# Altium footprint library FR107G.PcbLib: 1 footprints
Each footprint in its own frame and in the unit in brackets; x right, y up, seen from the top. Pads: shape width x height; smd on the part's side, far side on the other; paste and mask are expansions set on the pad; w line width, h text height; cw(c..) or ccw(c..) is an arc to the next point about the centre after c.
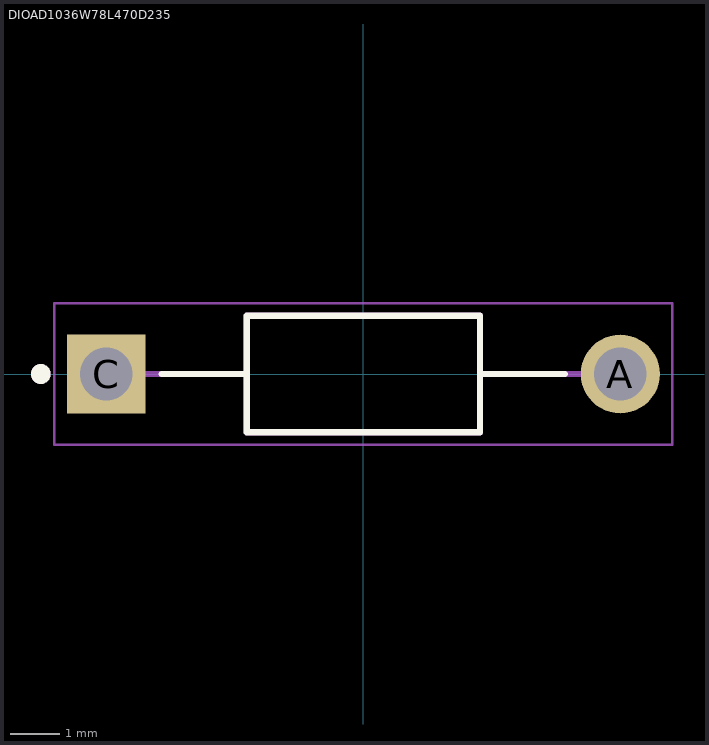
[diagram p0: the footprint, top view; thin cyan lines are the x and y axes]

## DIOAD1036W78L470D235 [mm]
pads (2):
  round 1.59 hole 1.06: A(5.18,0)
  rect 1.59x1.59 hole 1.06: C(-5.18,0)
Top Overlay:
  circle w0.2: c-6.5,0 r0.1
  lines w0.127: -4.065,0 -2.35,0 ; 4.065,0 2.35,0 ; -2.35,0 -2.35,-1.175 2.35,-1.175 2.35,0 ; -2.35,0 -2.35,1.175 2.35,1.175 2.35,0
Mechanical 13:
  circle w0.2: c-6.5,0 r0.1
  lines w0.127: -5.18,0 -2.35,0 ; 5.18,0 2.35,0 ; -2.35,0 -2.35,-1.175 2.35,-1.175 2.35,0 ; -2.35,0 -2.35,1.175 2.35,1.175 2.35,0
Mechanical 15:
  lines w0.05: -6.225,-1.425 6.225,-1.425 6.225,1.425 -6.225,1.425 -6.225,-1.425
3D body "step_temp.STEP": height 2.8, standoff -15.3, extent -5.545,-1.4 5.545,1.4